# EAGLE library part PUSHPULL (library Mes_Dissipateurs)
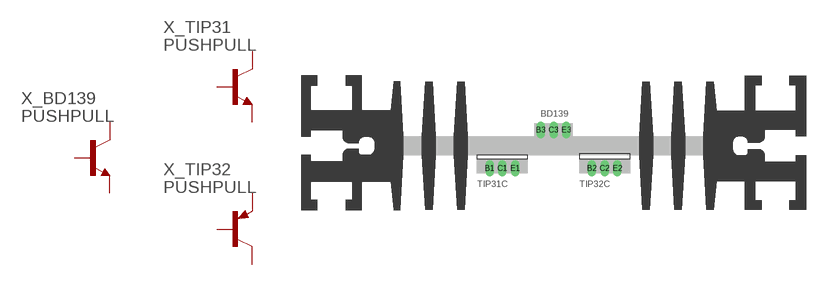
[diagram p0: symbol with the pads of DISSIP_100_95; footprint DISSIP_100_95]

Designator prefix X_; gates TIP31=NPN BD139=NPN TIP32=PNP

## PUSHPULL  [DISSIP_100_95]
B1  TIP31:B  pas
B2  TIP32:B  pas
B3  BD139:B  pas
C1  TIP31:C  pas
C2  TIP32:C  pas
C3  BD139:C  pas
E1  TIP31:E  pas
E2  TIP32:E  pas
E3  BD139:E  pas

## Footprint DISSIP_100_95 (pad centres in mm)
drill 1.1 long: B1 -12.7,0; B2 7.62,0; B3 -2.54,7.62; C1 -10.16,0; C2 10.16,0; C3 0,7.62; E1 -7.62,0; E2 12.7,0; E3 2.54,7.62